# Altium footprint library pidbot.PcbLib: 20 footprints (part 2 of 2)
Each footprint in its own frame and in the unit in brackets; x right, y up, seen from the top. Pads: shape width x height; smd on the part's side, far side on the other; paste and mask are expansions set on the pad; w line width, h text height; cw(c..) or ccw(c..) is an arc to the next point about the centre after c.
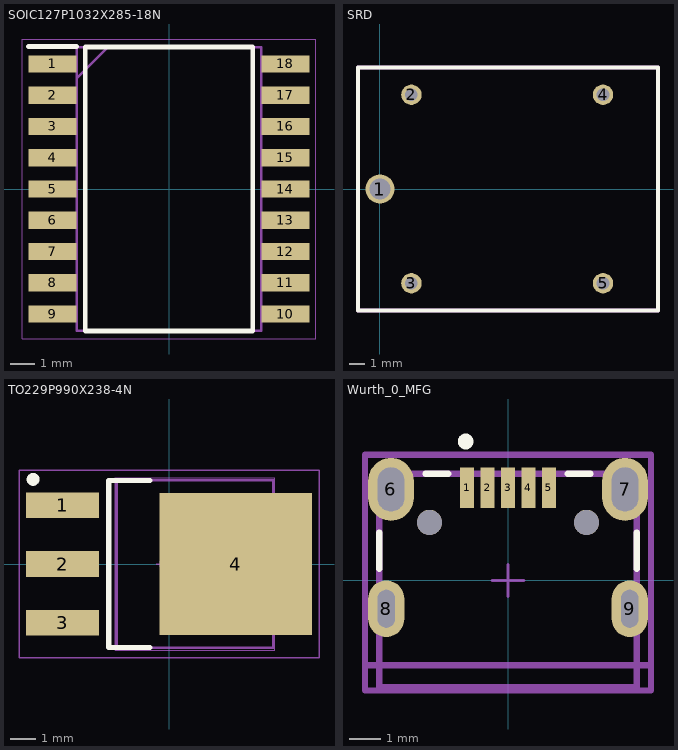
[diagram p1: the footprints below, top view; thin cyan lines are the x and y axes]

## SOIC127P1032X285-18N [mm]
pads (18):
  rect 1.95x0.7 smd: 1(-4.725,5.08) 2(-4.725,3.81) 3(-4.725,2.54) 4(-4.725,1.27) 5(-4.725,0) 6(-4.725,-1.27) 7(-4.725,-2.54) 8(-4.725,-3.81) 9(-4.725,-5.08) 10(4.725,-5.08) 11(4.725,-3.81) 12(4.725,-2.54) 13(4.725,-1.27) 14(4.725,0) 15(4.725,1.27) 16(4.725,2.54) 17(4.725,3.81) 18(4.725,5.08)
Top Overlay:
  lines w0.2: -5.7,5.78 -3.75,5.78 ; -3.4,-5.758 -3.4,5.758 3.4,5.758 3.4,-5.758 -3.4,-5.758
Mechanical 13:
  lines w0.1: -3.748,4.488 -2.478,5.758 ; -3.748,-5.758 -3.748,5.758 3.748,5.758 3.748,-5.758 -3.748,-5.758
Mechanical 15:
  lines w0.05: -5.95,-6.09 -5.95,6.09 5.95,6.09 5.95,-6.09 -5.95,-6.09
3D body "ULN2803AFWG,C,EL.stp": height 2.85, standoff 0, extent -5.162,-5.757 5.162,5.757

## SRD [mm]
pads (5):
  round 1.84 hole 1.34: 1(0,0)
  round 1.3 hole 0.8: 2(2,6) 3(2,-6) 4(14.2,6) 5(14.2,-6)
Top Overlay:
  lines w0.254: -1.4,-7.75 17.7,-7.75 17.7,7.75 -1.4,7.75 -1.4,-7.75
Mechanical 13:
  lines w0.254: -1.4,-7.75 17.7,-7.75 17.7,7.75 -1.4,7.75 -1.4,-7.75

## TO229P990X238-4N [mm]
pads (4):
  rect 2.85x1 smd: 1(-4.15,2.29) 2(-4.15,0) 3(-4.15,-2.29)
  rect 5.95x5.55 smd: 4(2.6,0)
Top Overlay:
  circle w0.25: c-5.3,3.3 r0.125
  lines w0.2: -0.75,-3.25 -2.35,-3.25 -2.35,3.25 -0.75,3.25
Mechanical 13:
  lines w0.1: 4.062,-2.508 4.356,-2.508 4.952,-1.846 4.952,1.847 4.356,2.508 4.062,2.508 ; -2.032,-3.27 -2.032,3.27 4.062,3.27 4.062,-3.27 -2.032,-3.27
Mechanical 15:
  circle w0.05: c0,0 r0.35
  lines w0.001: -2.095,-3.365 -2.095,3.365 4.125,3.365 4.125,-3.365 -2.095,-3.365
  lines w0.05: -0.5,0 0.5,0 ; 0,-0.5 0,0.5 ; -5.85,-3.65 -5.85,3.65 5.85,3.65 5.85,-3.65 -5.85,-3.65

## Wurth_0_MFG [mm]
pads (11):
  rect 0.45x1.3 smd paste+0 mask+0: 1(-1.3,2.95) 2(-0.65,2.95) 3(0,2.95) 4(0.65,2.95) 5(1.3,2.95)
  rrect100% 1.45x2 hole 1.4 slot 0.85 at 0 deg paste-1000 mask+0: 6(-3.725,2.9) 7(3.725,2.9)
  rrect100% 1.15x1.8 hole 1.2 slot 0.55 at 0 deg paste-1000 mask+0: 8(-3.875,-0.9) 9(3.875,-0.9)
  round 0.8 hole 0.8 unplated paste-1000 mask+0: ""(-2.5,1.85) ""(2.5,1.85)
Top Overlay:
  circle w0.25: c-1.35,4.425 r0.125
  lines w0.2: -4.1,0.375 -4.1,1.525 ; -2.625,3.4 -1.9,3.4 ; 1.9,3.4 2.625,3.4 ; 4.1,0.375 4.1,1.525
Mechanical 10:
  lines w0.2: -4.55,-3.5 -4.55,4 4.55,4 4.55,-3.5 -4.55,-3.5
  text ".Designator" at 0,0.438 h1
Mechanical 12:
  lines w0.2: -4.55,-2.7 4.55,-2.7 ; -4.1,-3.4 -4.1,3.4 4.1,3.4 4.1,-3.4 -4.1,-3.4
Mechanical 15:
  lines w0.1: -0.5,0 0.5,0 ; 0,-0.5 0,0.5
  lines w0.2: -4.55,-3.5 -4.55,4 4.55,4 4.55,-3.5 -4.55,-3.5
3D body "Conn_Wurth_629105150521_eec.STEP": height 0.25, standoff 0, extent -4.55,-3.5 4.55,4